# Altium footprint library Giga_noborder.PcbLib: 1 footprints
Each footprint in its own frame and in the unit in brackets; x right, y up, seen from the top. Pads: shape width x height; smd on the part's side, far side on the other; paste and mask are expansions set on the pad; w line width, h text height; cw(c..) or ccw(c..) is an arc to the next point about the centre after c.
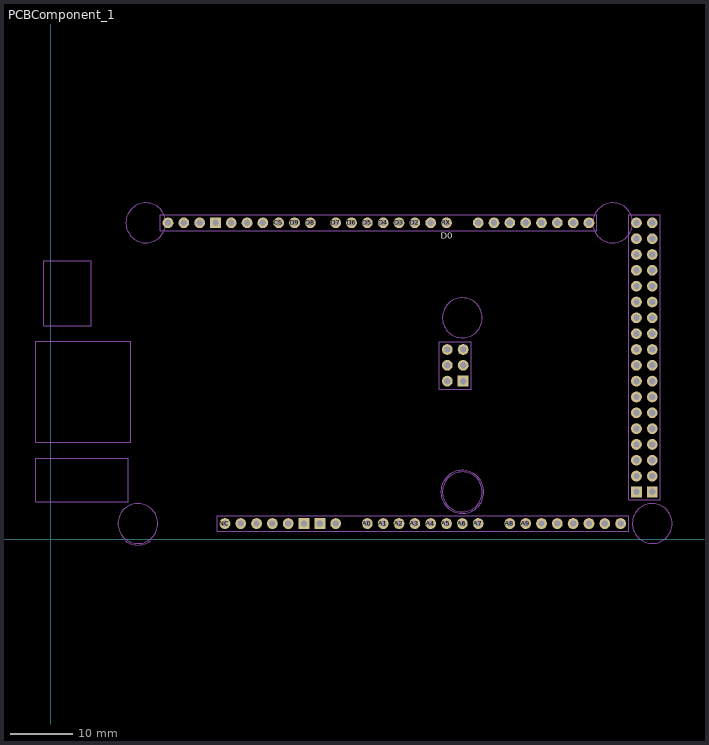
[diagram p0: the footprint, top view; thin cyan lines are the x and y axes]

## PCBComponent_1 [mil]
pads (92):
  rrect100% 68x68 hole 40: 3V3(1400,100) 5V1(1500,100) 5V2(2605,1200) 5V3(3700,2000) 5V4(3800,2000) A0(2000,100) A1(2100,100) A2(2200,100) A3(2300,100) A4(2400,100) A5(2500,100) A6(2600,100) A7(2700,100) A8(2900,100) A9(3000,100) A10(3100,100) A11(3200,100) AREF(940,2000) CANR(3500,100) CANT(3600,100) CIPO(1240,2000) COPI(1340,2000) CS(1440,2000) D2(2300,2000) D3(2200,2000) D4(2100,2000) D5(2000,2000) D6(1900,2000) D7(1800,2000) D8(1640,2000) D9(1540,2000) D22(3700,1900) D23(3800,1900) D24(3700,1800) D25(3800,1800) D26(3700,1700) D27(3800,1700) D28(3700,1600) D29(3800,1600) D30(3700,1500) D31(3800,1500) D32(3700,1400) D33(3800,1400) D34(3700,1300) D35(3800,1300) D36(3700,1200) D37(3800,1200) D38(3700,1100) D39(3800,1100) D40(3700,1000) D41(3800,1000) D42(3700,900) D43(3800,900) D44(3700,800) D45(3800,800) D46(3700,700) D47(3800,700) D48(3700,600) D49(3800,600) D50(3700,500) D51(3800,500) D52(3700,400) D53(3800,400) DAC0(3300,100) DAC1(3400,100) IORF(1200,100) MISO(2505,1200) MOSI(2605,1100) NC(1100,100) RST1(1300,100) RST2(2505,1000) RX(2500,2000) RX1(3200,2000) RX2(3000,2000) RX3(2800,2000) SCK1(1140,2000) SCK2(2505,1100) SCL(3400,2000) SCL1(740,2000) SDA(3300,2000) SDA1(840,2000) TX0(2400,2000) TX1(3100,2000) TX2(2900,2000) TX3(2700,2000) VIN(1800,100)
  rect 68x68 hole 40: GND1(1040,2000) GND2(1600,100) GND3(1700,100) GND4(2605,1000) GND5(3700,300) GND6(3800,300)
Top Overlay:
  text "." at 2452.22,1252.22 h39.37
  text "D0" at 2463.45,1899.41 h39.37
Bottom Overlay:
  text "." at 2452.22,1252.22 h39.37
  text "D0" at 2536.55,1899.41 h39.37
Mechanical 3:
  lines w5.91: 470,-10 ccw(c550,100.11) 630,-10
Mechanical 4:
  circle w5.91: c2600,300 r135.83
Mechanical 5:
  circle w5.91: c2600,300 r125.98
  circle w5.91: c600,2000 r125.98
  circle w5.91: c3550,2000 r125.98
  circle w5.91: c2600,1400 r125.98
  circle w5.91: c550,100 r125.98
  circle w5.91: c3800,100 r125.98
  lines w3.94: 690,1950 690,2050 3450,2050 3450,1950 690,1950 ; 1050,50 1050,150 3650,150 3650,50 1050,50 ; 3650,250 3650,2050 3850,2050 3850,250 3650,250
  lines w5.91: -94.88,612.99 -94.88,1251.18 503.94,1251.18 503.94,612.99 -94.88,612.99 ; -94.49,236.61 488.19,236.61 488.19,512.6 -94.49,512.6 -94.49,236.61 ; -45.67,1348.43 255.51,1348.43 255.51,1761.81 -45.67,1761.81 -45.67,1348.43 ; 2455,950 2455,1250 2655,1250 2655,950 2455,950
  text "USB C" at 149.44,1542.32 h19.68
  text "Audio Jack" at 273.51,361.34 h19.68
  text "USB A" at 249.51,919.29 h19.68
Mechanical 6:
  circle w5.91: c600,2000 r125.98
  circle w5.91: c3550,2000 r125.98
  circle w5.91: c2600,1400 r125.98
  circle w5.91: c2600,300 r125.98